# EAGLE library part BQ24061DRCR (library BQ24061DRCR)
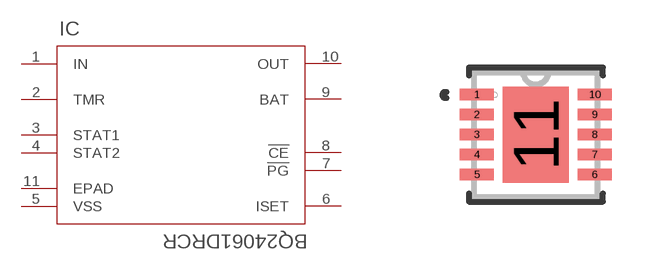
[diagram p0: symbol with the pads of DRC10_1P65X2P40; footprint DRC10_1P65X2P40]

Designator prefix IC

## BQ24061DRCR  [DRC10_1P65X2P40]
1  IN  in
2  TMR  in
3  STAT1  out
4  STAT2  out
5  VSS  pwr
6  ISET  out
7  !PG  out
8  !CE  in
9  BAT  in
10  OUT  out
11  EPAD  pwr

## Footprint DRC10_1P65X2P40 (pad centres in mm)
smd 0.85 x 0.28: 1 -1.475,1; 2 -1.475,0.5; 3 -1.475,0; 4 -1.475,-0.5; 5 -1.475,-1; 6 1.475,-1; 7 1.475,-0.5; 8 1.475,0; 9 1.475,0.5; 10 1.475,1
smd 1.65 x 2.4: 11 0,0